# EAGLE library part D36V50F5 (library myProyects)
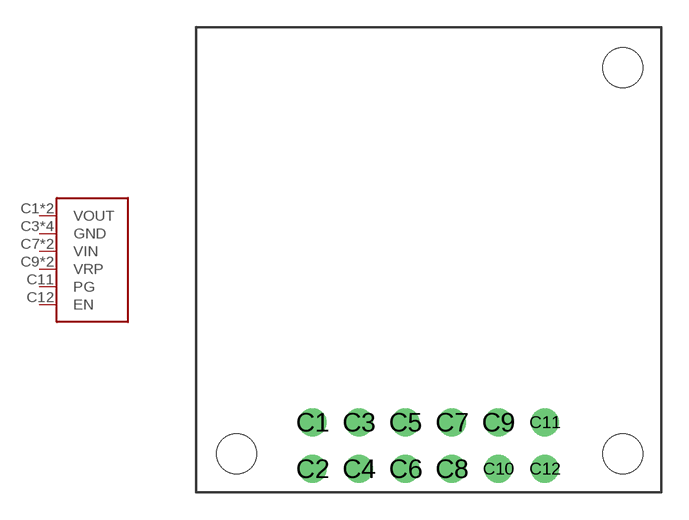
[diagram p0: symbol with the pads of D36V50F5; footprint D36V50F5]

Designator prefix IC

## D36V50F5  [D36V50F5]
C1  VOUT
C2  VOUT
C3  GND
C4  GND
C5  GND
C6  GND
C7  VIN
C8  VIN
C9  VRP
C10  VRP
C11  PG
C12  EN

## Footprint D36V50F5 (pad centres in mm)
drill 1.02: C1 6.35,3.81; C2 6.35,1.27; C3 8.89,3.81; C4 8.89,1.27; C5 11.43,3.81; C6 11.43,1.27; C7 13.97,3.81; C8 13.97,1.27; C9 16.51,3.81; C10 16.51,1.27; C11 19.05,3.81; C12 19.05,1.27
hole 2.18 at 2.2,2.1
hole 2.18 at 23.3,2.1
hole 2.18 at 23.3,23.2